# Altium schematic symbol library STTH112A.SchLib: 1 symbol
Pins are listed as number, name and electrical type; pins without a type are passive.

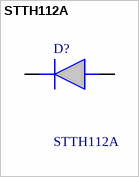
[diagram p0: symbol STTH112A]

## STTH112A
designator D?
Low forwarded voltage drop  High reliability  High surge current capability  Soft switching for reduced EMI disturbances  Planar technology; Manufacturer_Name: STMicroelectronics; Geometry.Height: 2.65mm; Mouser Part Number: 511-STTH112A; Mouser Price/Stock: https://www.mouser.co.uk/ProductDetail/STMicroelectronics/STTH112A?qs=1X0wRT6hCqH%2F7s%2FmzYZuyg%3D%3D; Manufacturer_Part_Number: STTH112A; Datasheet Link: https://www.st.com/resource/en/datasheet/stth112.pdf
footprint DIOM5126X265N
pins: 1 K, 2 A